# Altium schematic symbol library LM358N_NOPB.SchLib: 1 symbol
Pins are listed as number, name and electrical type; pins without a type are passive.

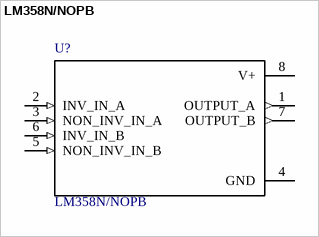
[diagram p0: symbol LM358N/NOPB]

## LM358N/NOPB
designator U?
MF: ON Semiconductor; MP: LM358N; Price: None; Package: DIP-8 Intersil; SnapEDA_Link: https://www.snapeda.com/parts/LM358N/ON%20Semiconductor/view-part/?ref=snap; Availability: Unavailable; Value: *
footprint *DIP794W45P254L1016H508Q8
pins: 1 OUTPUT_A (out), 2 INV_IN_A (in), 3 NON_INV_IN_A (in), 4 GND (power), 5 NON_INV_IN_B (in), 6 INV_IN_B (in), 7 OUTPUT_B (out), 8 V+ (power)